# EAGLE library part 2833534 (library CASARIAE)
HIGHLY RELIABLE MINIATURE DIP RELAYS NAiS Source: www.mew-europe.com/ac/download/ datasheet/relay/dr_en.pdf
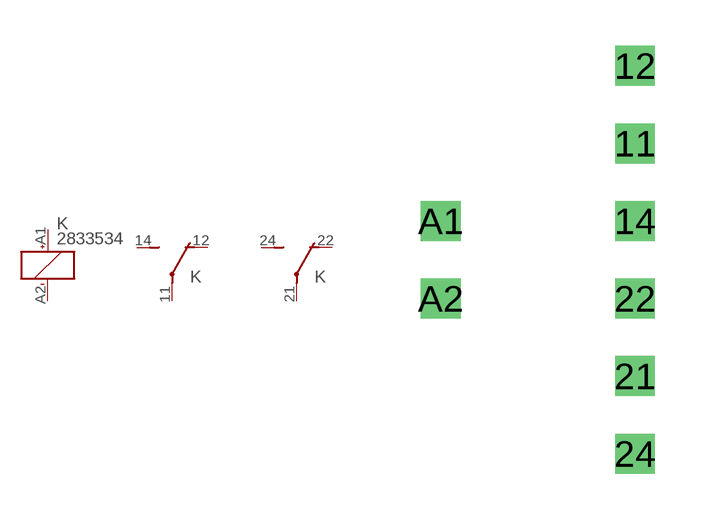
[diagram p0: symbol with the pads of RELAY1; footprint RELAY1]

Designator prefix K; gates -1=K+- -2=U G$1=U

## 2833534  [RELAY1]
11  -2:P  pas
12  -2:O  pas
14  -2:S  pas
21  G$1:P  pas
22  G$1:O  pas
24  G$1:S  pas
A1  -1:+  pas
A2  -1:-  pas

## Footprint RELAY1 (pad centres in mm)
drill 0.8 square: 11 -5.08,7.62; 12 -5.08,10.16; 14 -5.08,5.08; 21 -5.08,0; 22 -5.08,2.54; 24 -5.08,-2.54; A1 -11.43,5.08; A2 -11.43,2.54